# Altium schematic symbol library MPRLS0025PA00001A.SchLib: 1 symbol
Pins are listed as number, name and electrical type; pins without a type are passive.

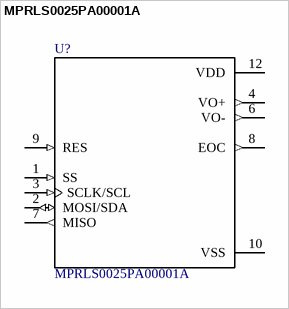
[diagram p0: symbol MPRLS0025PA00001A]

## MPRLS0025PA00001A
designator U?
/ Pressure Sensor 0psi to 25psi Absolute 12-Pin T/R /; MF: Honeywell Sensing; Price: None; Package: SMD-10 Honeywell; SnapEDA_Link: https://www.snapeda.com/parts/MPRLS0025PA00001A/Honeywell%20Sensing%20and%20Productivity%20Solutions/view-part/?ref=snap; Availability: Unavailable; MP: MPRLS0025PA00001A; Value: *
footprint *XDCR_MPRLS0025PA00001A
pins: 1 SS (in), 2 MOSI/SDA (io), 3 SCLK/SCL (in), 4 VO+ (out), 6 VO- (out), 7 MISO (out), 8 EOC (out), 9 RES (in), 10 VSS (power), 12 VDD (power)